# Altium schematic symbol library Schottky_x2_cathode.SchLib: 1 symbol
Pins are listed as number, name and electrical type; pins without a type are passive.

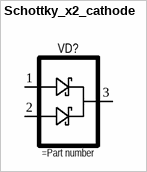
[diagram p0: symbol Schottky_x2_cathode]

## Schottky_x2_cathode
designator VD?
pins: 1, 2, 3